# EAGLE library part IN-P55TATRGB (library IN-P55TATRGB)
Standard LEDs - SMD RGB LED Source: Datasheet <http://www.inolux-corp.com/datasheet/SMDLED/RGB Top View/IN-P55TATRGB.pdf>
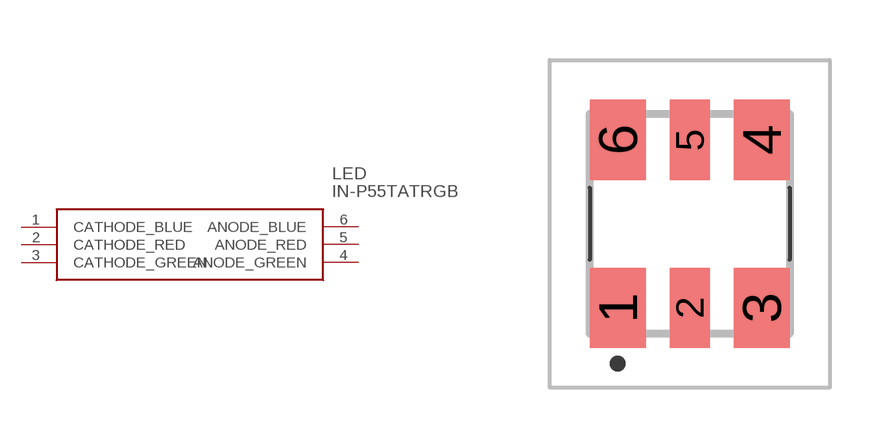
[diagram p0: symbol with the pads of INP55TATRGB; footprint INP55TATRGB]

Designator prefix LED

## IN-P55TATRGB (Description: Standard LEDs - SMD RGB LED; Height: 1.5mm; Manufacturer_Name: Inolux; Manufacturer_Part_Number: IN-P55TATRGB; Mouser_Part_Number: 743-IN-P55TATRGB; Mouser_Price-Stock: https://www.mouser.co.uk/ProductDetail/Inolux/IN-P55TATRGB?qs=fAHHVMwC%252BbjmM0iMDYvL2g%3D%3D)  [INP55TATRGB]
1  CATHODE_BLUE
2  CATHODE_RED
3  CATHODE_GREEN
4  ANODE_GREEN
5  ANODE_RED
6  ANODE_BLUE

## Footprint INP55TATRGB (pad centres in mm)
IN-P55TATRGB-3
smd 1.4 x 2: 1 -1.8,-2.1; 3 1.8,-2.1; 4 1.8,2.1; 6 -1.8,2.1
smd 1 x 2: 2 0,-2.1; 5 0,2.1